# Altium integrated library SignalCommunications.IntLib: 804 symbols (part 6 of 10)
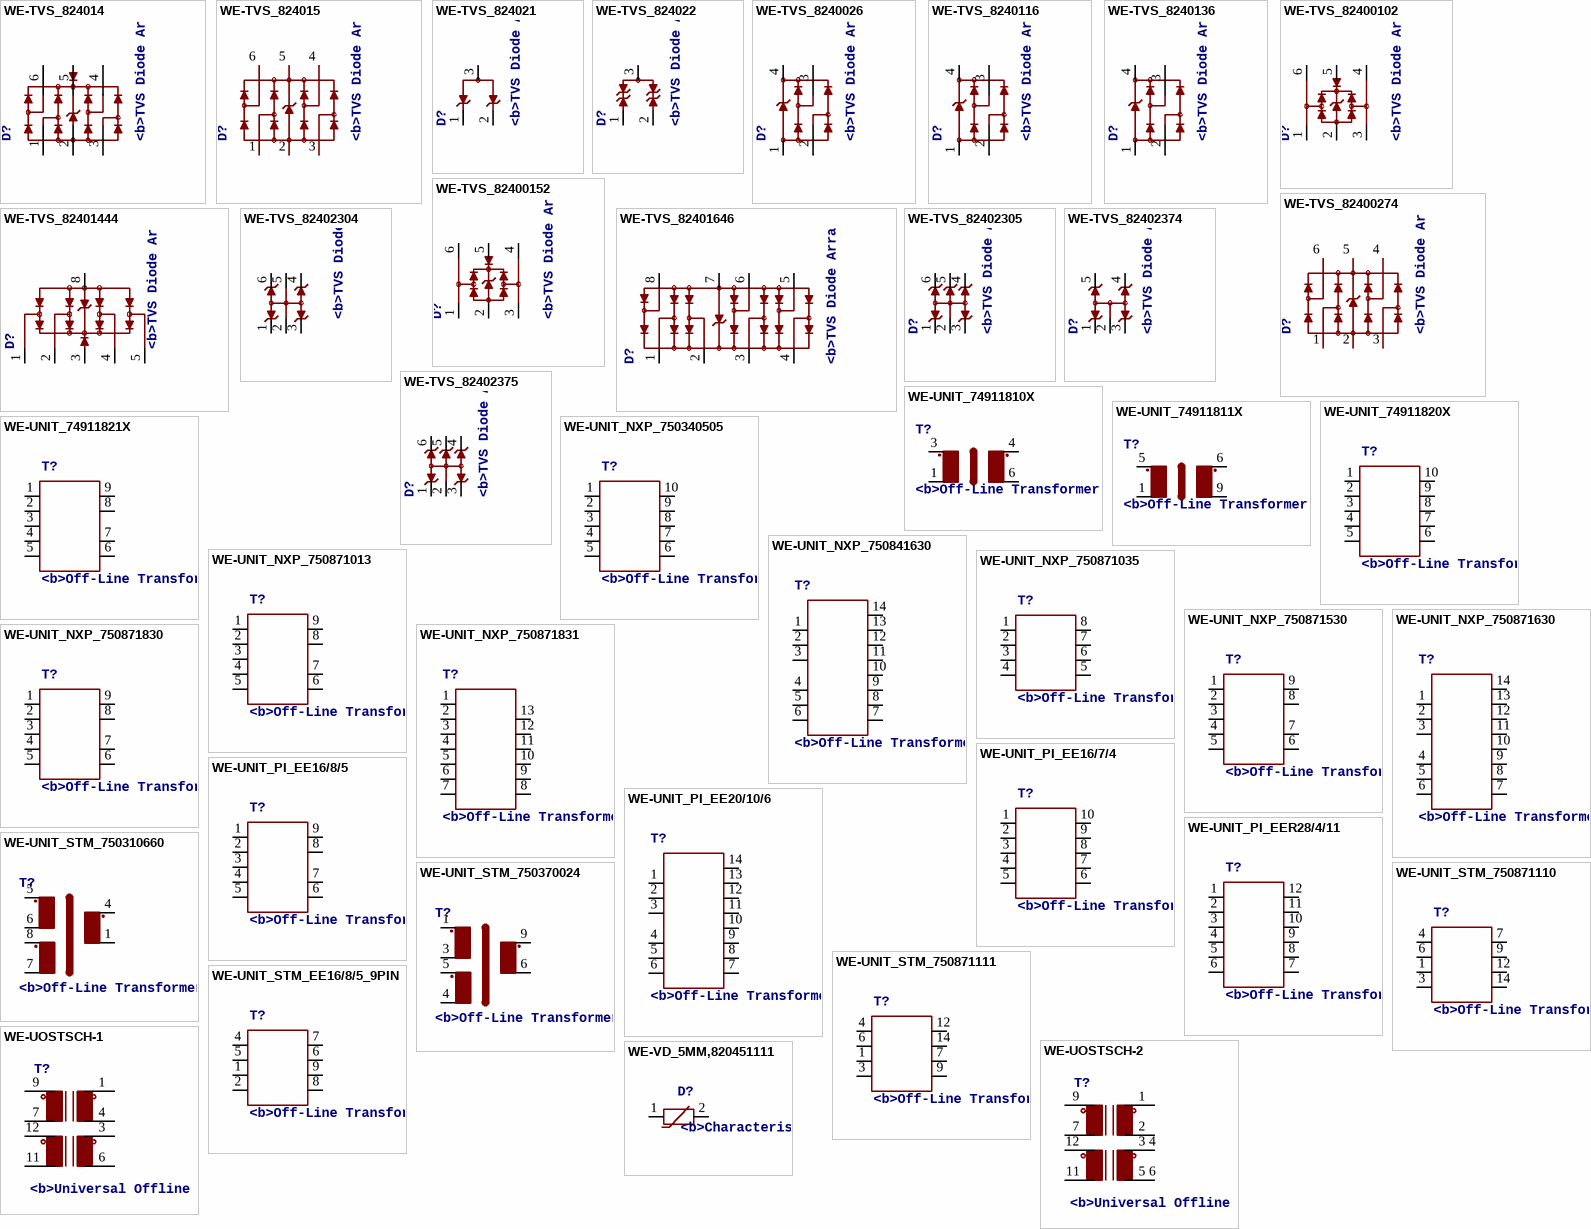
[diagram p47: symbols WE-TVS_824014 to WE-VD_5MM,820451111]

## WE-UOSTSCH-2
designator T?, comment <b>Universal Offline Standard Transformers WE-UOST</b><p> / - Approximate 1% stray inductance for symmetrical interference suppression<br> / <br> / -- Input voltage range 85-265VAC (125-375VDC)<br> / -- Output power 12-16W <br> / -- designed to comply with EN61558-2-16: reinforced insulation<br> / -- creepage and clearance distance > 6.5 mm <br> / --Insulation test voltage 4kV(AC)<br> / -- For SMD assembly <br>
MANUFACTURER: Würth Elektronik eiSos GmbH; CREATED-BY: Christin Zierenner; COMPANY-URL: http://www.we-online.de; CREATED-DATE: JAN 2013; DATASHEET-URL: http://katalog.we-online.de/en/pbs/WE-UOST?m=t&sq=uost&sp=&sp=http%3A%2F%2Fwww.we-online.de%2Fweb%2Fen%2Felectronic_components%2Fsearchpage_PBS.php%3Fsearch%3DUOST
footprint WE-UOST
pins: 1, 2 4, 3 4 3, 5 6 6, 7, 9, 11, 12

## WE-VD_5MM,820451111
designator D?, comment <b>Characteristics:</b> / <pre>•Low clamping voltage / •After a surge impulse the varistor works immediately / in normal mode so there is no slip current / •Excellent absorption at surge impulses</pre><br> / <b>Applications:</b> / <pre> / •12–48 VDC distribution / •110–400 V power supply / •Leakage of voltage peaks / •Surge protection in accordance with EN 61000-4-5 / </pre>
MANUFACTURER: Würth Elektronik eiSos GmbH; CREATED-BY: Christin Zierenner; COMPANY-URL: http://www.we-online.de; CREATED-DATE: May 2012; DATASHEET-URL: http://katalog.we-online.de/kataloge/eisos/index.php?language=en&pf=WE-VD
footprint WE-VD_5MM-DIA
pins: 1, 2

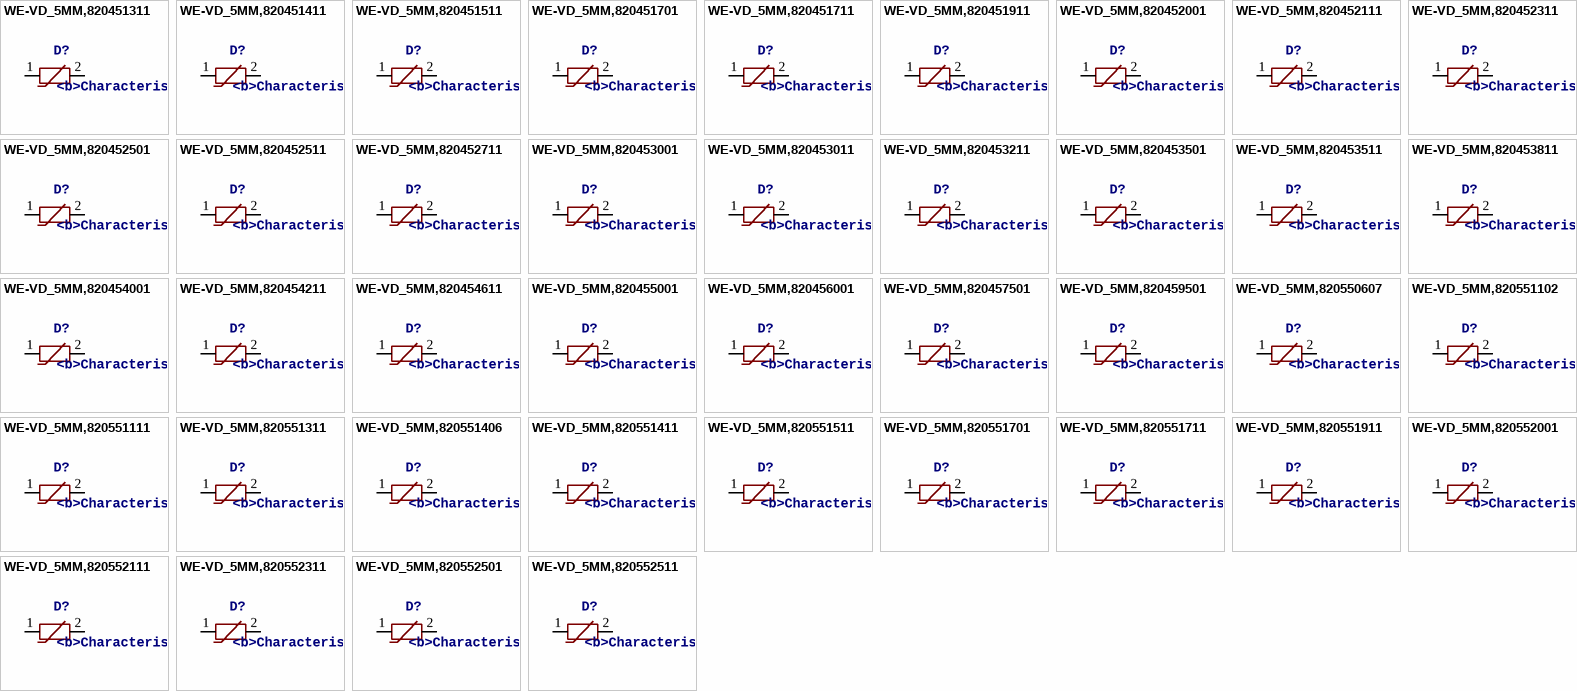
[diagram p34: symbols WE-VD_5MM,820451311 to WE-VD_5MM,820552511]

## WE-VD_5MM,820451311
designator D?, comment <b>Characteristics:</b> / <pre>•Low clamping voltage / •After a surge impulse the varistor works immediately / in normal mode so there is no slip current / •Excellent absorption at surge impulses</pre><br> / <b>Applications:</b> / <pre> / •12–48 VDC distribution / •110–400 V power supply / •Leakage of voltage peaks / •Surge protection in accordance with EN 61000-4-5 / </pre>
MANUFACTURER: Würth Elektronik eiSos GmbH; CREATED-BY: Christin Zierenner; COMPANY-URL: http://www.we-online.de; CREATED-DATE: May 2012; DATASHEET-URL: http://katalog.we-online.de/kataloge/eisos/index.php?language=en&pf=WE-VD
footprint WE-VD_5MM-DIA
pins: 1, 2

## WE-VD_5MM,820451411
designator D?, comment <b>Characteristics:</b> / <pre>•Low clamping voltage / •After a surge impulse the varistor works immediately / in normal mode so there is no slip current / •Excellent absorption at surge impulses</pre><br> / <b>Applications:</b> / <pre> / •12–48 VDC distribution / •110–400 V power supply / •Leakage of voltage peaks / •Surge protection in accordance with EN 61000-4-5 / </pre>
MANUFACTURER: Würth Elektronik eiSos GmbH; CREATED-BY: Christin Zierenner; COMPANY-URL: http://www.we-online.de; CREATED-DATE: May 2012; DATASHEET-URL: http://katalog.we-online.de/kataloge/eisos/index.php?language=en&pf=WE-VD
footprint WE-VD_5MM-DIA
pins: 1, 2

## WE-VD_5MM,820451511
designator D?, comment <b>Characteristics:</b> / <pre>•Low clamping voltage / •After a surge impulse the varistor works immediately / in normal mode so there is no slip current / •Excellent absorption at surge impulses</pre><br> / <b>Applications:</b> / <pre> / •12–48 VDC distribution / •110–400 V power supply / •Leakage of voltage peaks / •Surge protection in accordance with EN 61000-4-5 / </pre>
MANUFACTURER: Würth Elektronik eiSos GmbH; CREATED-BY: Christin Zierenner; COMPANY-URL: http://www.we-online.de; CREATED-DATE: May 2012; DATASHEET-URL: http://katalog.we-online.de/kataloge/eisos/index.php?language=en&pf=WE-VD
footprint WE-VD_5MM-DIA
pins: 1, 2

## WE-VD_5MM,820451701
designator D?, comment <b>Characteristics:</b> / <pre>•Low clamping voltage / •After a surge impulse the varistor works immediately / in normal mode so there is no slip current / •Excellent absorption at surge impulses</pre><br> / <b>Applications:</b> / <pre> / •12–48 VDC distribution / •110–400 V power supply / •Leakage of voltage peaks / •Surge protection in accordance with EN 61000-4-5 / </pre>
MANUFACTURER: Würth Elektronik eiSos GmbH; CREATED-BY: Christin Zierenner; COMPANY-URL: http://www.we-online.de; CREATED-DATE: May 2012; DATASHEET-URL: http://katalog.we-online.de/kataloge/eisos/index.php?language=en&pf=WE-VD
footprint WE-VD_5MM-DIA
pins: 1, 2

## WE-VD_5MM,820451711
designator D?, comment <b>Characteristics:</b> / <pre>•Low clamping voltage / •After a surge impulse the varistor works immediately / in normal mode so there is no slip current / •Excellent absorption at surge impulses</pre><br> / <b>Applications:</b> / <pre> / •12–48 VDC distribution / •110–400 V power supply / •Leakage of voltage peaks / •Surge protection in accordance with EN 61000-4-5 / </pre>
MANUFACTURER: Würth Elektronik eiSos GmbH; CREATED-BY: Christin Zierenner; COMPANY-URL: http://www.we-online.de; CREATED-DATE: May 2012; DATASHEET-URL: http://katalog.we-online.de/kataloge/eisos/index.php?language=en&pf=WE-VD
footprint WE-VD_5MM-DIA
pins: 1, 2

## WE-VD_5MM,820451911
designator D?, comment <b>Characteristics:</b> / <pre>•Low clamping voltage / •After a surge impulse the varistor works immediately / in normal mode so there is no slip current / •Excellent absorption at surge impulses</pre><br> / <b>Applications:</b> / <pre> / •12–48 VDC distribution / •110–400 V power supply / •Leakage of voltage peaks / •Surge protection in accordance with EN 61000-4-5 / </pre>
MANUFACTURER: Würth Elektronik eiSos GmbH; CREATED-BY: Christin Zierenner; COMPANY-URL: http://www.we-online.de; CREATED-DATE: May 2012; DATASHEET-URL: http://katalog.we-online.de/kataloge/eisos/index.php?language=en&pf=WE-VD
footprint WE-VD_5MM-DIA
pins: 1, 2

## WE-VD_5MM,820452001
designator D?, comment <b>Characteristics:</b> / <pre>•Low clamping voltage / •After a surge impulse the varistor works immediately / in normal mode so there is no slip current / •Excellent absorption at surge impulses</pre><br> / <b>Applications:</b> / <pre> / •12–48 VDC distribution / •110–400 V power supply / •Leakage of voltage peaks / •Surge protection in accordance with EN 61000-4-5 / </pre>
MANUFACTURER: Würth Elektronik eiSos GmbH; CREATED-BY: Christin Zierenner; COMPANY-URL: http://www.we-online.de; CREATED-DATE: May 2012; DATASHEET-URL: http://katalog.we-online.de/kataloge/eisos/media/pdf/820452001.pdf
footprint WE-VD_5MM-DIA
pins: 1, 2

## WE-VD_5MM,820452111
designator D?, comment <b>Characteristics:</b> / <pre>•Low clamping voltage / •After a surge impulse the varistor works immediately / in normal mode so there is no slip current / •Excellent absorption at surge impulses</pre><br> / <b>Applications:</b> / <pre> / •12–48 VDC distribution / •110–400 V power supply / •Leakage of voltage peaks / •Surge protection in accordance with EN 61000-4-5 / </pre>
MANUFACTURER: Würth Elektronik eiSos GmbH; CREATED-BY: Christin Zierenner; COMPANY-URL: http://www.we-online.de; CREATED-DATE: May 2012; DATASHEET-URL: http://katalog.we-online.de/kataloge/eisos/index.php?language=en&pf=WE-VD
footprint WE-VD_5MM-1.0
pins: 1, 2

## WE-VD_5MM,820452311
designator D?, comment <b>Characteristics:</b> / <pre>•Low clamping voltage / •After a surge impulse the varistor works immediately / in normal mode so there is no slip current / •Excellent absorption at surge impulses</pre><br> / <b>Applications:</b> / <pre> / •12–48 VDC distribution / •110–400 V power supply / •Leakage of voltage peaks / •Surge protection in accordance with EN 61000-4-5 / </pre>
MANUFACTURER: Würth Elektronik eiSos GmbH; CREATED-BY: Christin Zierenner; COMPANY-URL: http://www.we-online.de; CREATED-DATE: May 2012; DATASHEET-URL: http://katalog.we-online.de/kataloge/eisos/index.php?language=en&pf=WE-VD
footprint WE-VD_5MM-1.1
pins: 1, 2

## WE-VD_5MM,820452501
designator D?, comment <b>Characteristics:</b> / <pre>•Low clamping voltage / •After a surge impulse the varistor works immediately / in normal mode so there is no slip current / •Excellent absorption at surge impulses</pre><br> / <b>Applications:</b> / <pre> / •12–48 VDC distribution / •110–400 V power supply / •Leakage of voltage peaks / •Surge protection in accordance with EN 61000-4-5 / </pre>
MANUFACTURER: Würth Elektronik eiSos GmbH; CREATED-BY: Christin Zierenner; COMPANY-URL: http://www.we-online.de; CREATED-DATE: May 2012; DATASHEET-URL: http://katalog.we-online.de/kataloge/eisos/index.php?language=en&pf=WE-VD
footprint WE-VD_5MM-DIA
pins: 1, 2

## WE-VD_5MM,820452511
designator D?, comment <b>Characteristics:</b> / <pre>•Low clamping voltage / •After a surge impulse the varistor works immediately / in normal mode so there is no slip current / •Excellent absorption at surge impulses</pre><br> / <b>Applications:</b> / <pre> / •12–48 VDC distribution / •110–400 V power supply / •Leakage of voltage peaks / •Surge protection in accordance with EN 61000-4-5 / </pre>
MANUFACTURER: Würth Elektronik eiSos GmbH; CREATED-BY: Christin Zierenner; COMPANY-URL: http://www.we-online.de; CREATED-DATE: May 2012; DATASHEET-URL: http://katalog.we-online.de/kataloge/eisos/index.php?language=en&pf=WE-VD
footprint WE-VD_5MM-1.3
pins: 1, 2

## WE-VD_5MM,820452711
designator D?, comment <b>Characteristics:</b> / <pre>•Low clamping voltage / •After a surge impulse the varistor works immediately / in normal mode so there is no slip current / •Excellent absorption at surge impulses</pre><br> / <b>Applications:</b> / <pre> / •12–48 VDC distribution / •110–400 V power supply / •Leakage of voltage peaks / •Surge protection in accordance with EN 61000-4-5 / </pre>
MANUFACTURER: Würth Elektronik eiSos GmbH; CREATED-BY: Christin Zierenner; COMPANY-URL: http://www.we-online.de; CREATED-DATE: May 2012; DATASHEET-URL: http://katalog.we-online.de/kataloge/eisos/index.php?language=en&pf=WE-VD
footprint WE-VD_5MM-1.5
pins: 1, 2

## WE-VD_5MM,820453001
designator D?, comment <b>Characteristics:</b> / <pre>•Low clamping voltage / •After a surge impulse the varistor works immediately / in normal mode so there is no slip current / •Excellent absorption at surge impulses</pre><br> / <b>Applications:</b> / <pre> / •12–48 VDC distribution / •110–400 V power supply / •Leakage of voltage peaks / •Surge protection in accordance with EN 61000-4-5 / </pre>
MANUFACTURER: Würth Elektronik eiSos GmbH; CREATED-BY: Christin Zierenner; COMPANY-URL: http://www.we-online.de; CREATED-DATE: May 2012; DATASHEET-URL: http://katalog.we-online.de/kataloge/eisos/media/pdf/820453001.pdf
footprint WE-VD_5MM-DIA
pins: 1, 2

## WE-VD_5MM,820453011
designator D?, comment <b>Characteristics:</b> / <pre>•Low clamping voltage / •After a surge impulse the varistor works immediately / in normal mode so there is no slip current / •Excellent absorption at surge impulses</pre><br> / <b>Applications:</b> / <pre> / •12–48 VDC distribution / •110–400 V power supply / •Leakage of voltage peaks / •Surge protection in accordance with EN 61000-4-5 / </pre>
MANUFACTURER: Würth Elektronik eiSos GmbH; CREATED-BY: Christin Zierenner; COMPANY-URL: http://www.we-online.de; CREATED-DATE: May 2012; DATASHEET-URL: http://katalog.we-online.de/kataloge/eisos/index.php?language=en&pf=WE-VD
footprint WE-VD_5MM-1.7
pins: 1, 2

## WE-VD_5MM,820453211
designator D?, comment <b>Characteristics:</b> / <pre>•Low clamping voltage / •After a surge impulse the varistor works immediately / in normal mode so there is no slip current / •Excellent absorption at surge impulses</pre><br> / <b>Applications:</b> / <pre> / •12–48 VDC distribution / •110–400 V power supply / •Leakage of voltage peaks / •Surge protection in accordance with EN 61000-4-5 / </pre>
MANUFACTURER: Würth Elektronik eiSos GmbH; CREATED-BY: Christin Zierenner; COMPANY-URL: http://www.we-online.de; CREATED-DATE: May 2012; DATASHEET-URL: http://katalog.we-online.de/kataloge/eisos/index.php?language=en&pf=WE-VD
footprint WE-VD_5MM-1.8
pins: 1, 2

## WE-VD_5MM,820453501
designator D?, comment <b>Characteristics:</b> / <pre>•Low clamping voltage / •After a surge impulse the varistor works immediately / in normal mode so there is no slip current / •Excellent absorption at surge impulses</pre><br> / <b>Applications:</b> / <pre> / •12–48 VDC distribution / •110–400 V power supply / •Leakage of voltage peaks / •Surge protection in accordance with EN 61000-4-5 / </pre>
MANUFACTURER: Würth Elektronik eiSos GmbH; CREATED-BY: Christin Zierenner; COMPANY-URL: http://www.we-online.de; CREATED-DATE: May 2012; DATASHEET-URL: http://katalog.we-online.de/kataloge/eisos/index.php?language=en&pf=WE-VD
footprint WE-VD_5MM-1.1
pins: 1, 2

## WE-VD_5MM,820453511
designator D?, comment <b>Characteristics:</b> / <pre>•Low clamping voltage / •After a surge impulse the varistor works immediately / in normal mode so there is no slip current / •Excellent absorption at surge impulses</pre><br> / <b>Applications:</b> / <pre> / •12–48 VDC distribution / •110–400 V power supply / •Leakage of voltage peaks / •Surge protection in accordance with EN 61000-4-5 / </pre>
MANUFACTURER: Würth Elektronik eiSos GmbH; CREATED-BY: Christin Zierenner; COMPANY-URL: http://www.we-online.de; CREATED-DATE: May 2012; DATASHEET-URL: http://katalog.we-online.de/kataloge/eisos/index.php?language=en&pf=WE-VD
footprint WE-VD_5MM-2.1
pins: 1, 2

## WE-VD_5MM,820453811
designator D?, comment <b>Characteristics:</b> / <pre>•Low clamping voltage / •After a surge impulse the varistor works immediately / in normal mode so there is no slip current / •Excellent absorption at surge impulses</pre><br> / <b>Applications:</b> / <pre> / •12–48 VDC distribution / •110–400 V power supply / •Leakage of voltage peaks / •Surge protection in accordance with EN 61000-4-5 / </pre>
MANUFACTURER: Würth Elektronik eiSos GmbH; CREATED-BY: Christin Zierenner; COMPANY-URL: http://www.we-online.de; CREATED-DATE: May 2012; DATASHEET-URL: http://katalog.we-online.de/kataloge/eisos/media/pdf/820453811.pdf
footprint WE-VD_5MM-2.4
pins: 1, 2

## WE-VD_5MM,820454001
designator D?, comment <b>Characteristics:</b> / <pre>•Low clamping voltage / •After a surge impulse the varistor works immediately / in normal mode so there is no slip current / •Excellent absorption at surge impulses</pre><br> / <b>Applications:</b> / <pre> / •12–48 VDC distribution / •110–400 V power supply / •Leakage of voltage peaks / •Surge protection in accordance with EN 61000-4-5 / </pre>
MANUFACTURER: Würth Elektronik eiSos GmbH; CREATED-BY: Christin Zierenner; COMPANY-URL: http://www.we-online.de; CREATED-DATE: May 2012; DATASHEET-URL: http://katalog.we-online.de/kataloge/eisos/index.php?language=en&pf=WE-VD
footprint WE-VD_5MM-1.5
pins: 1, 2

## WE-VD_5MM,820454211
designator D?, comment <b>Characteristics:</b> / <pre>•Low clamping voltage / •After a surge impulse the varistor works immediately / in normal mode so there is no slip current / •Excellent absorption at surge impulses</pre><br> / <b>Applications:</b> / <pre> / •12–48 VDC distribution / •110–400 V power supply / •Leakage of voltage peaks / •Surge protection in accordance with EN 61000-4-5 / </pre>
MANUFACTURER: Würth Elektronik eiSos GmbH; CREATED-BY: Christin Zierenner; COMPANY-URL: http://www.we-online.de; CREATED-DATE: May 2012; DATASHEET-URL: http://katalog.we-online.de/kataloge/eisos/index.php?language=en&pf=WE-VD
footprint WE-VD_5MM-2.7
pins: 1, 2

## WE-VD_5MM,820454611
designator D?, comment <b>Characteristics:</b> / <pre>•Low clamping voltage / •After a surge impulse the varistor works immediately / in normal mode so there is no slip current / •Excellent absorption at surge impulses</pre><br> / <b>Applications:</b> / <pre> / •12–48 VDC distribution / •110–400 V power supply / •Leakage of voltage peaks / •Surge protection in accordance with EN 61000-4-5 / </pre>
MANUFACTURER: Würth Elektronik eiSos GmbH; CREATED-BY: Christin Zierenner; COMPANY-URL: http://www.we-online.de; CREATED-DATE: May 2012; DATASHEET-URL: http://katalog.we-online.de/kataloge/eisos/index.php?language=en&pf=WE-VD
footprint WE-VD_5MM-3.0
pins: 1, 2

## WE-VD_5MM,820455001
designator D?, comment <b>Characteristics:</b> / <pre>•Low clamping voltage / •After a surge impulse the varistor works immediately / in normal mode so there is no slip current / •Excellent absorption at surge impulses</pre><br> / <b>Applications:</b> / <pre> / •12–48 VDC distribution / •110–400 V power supply / •Leakage of voltage peaks / •Surge protection in accordance with EN 61000-4-5 / </pre>
MANUFACTURER: Würth Elektronik eiSos GmbH; CREATED-BY: Christin Zierenner; COMPANY-URL: http://www.we-online.de; CREATED-DATE: May 2012; DATASHEET-URL: http://katalog.we-online.de/kataloge/eisos/index.php?language=en&pf=WE-VD
footprint WE-VD_5MM-DIA
pins: 1, 2

## WE-VD_5MM,820456001
designator D?, comment <b>Characteristics:</b> / <pre>•Low clamping voltage / •After a surge impulse the varistor works immediately / in normal mode so there is no slip current / •Excellent absorption at surge impulses</pre><br> / <b>Applications:</b> / <pre> / •12–48 VDC distribution / •110–400 V power supply / •Leakage of voltage peaks / •Surge protection in accordance with EN 61000-4-5 / </pre>
MANUFACTURER: Würth Elektronik eiSos GmbH; CREATED-BY: Christin Zierenner; COMPANY-URL: http://www.we-online.de; CREATED-DATE: May 2012; DATASHEET-URL: http://katalog.we-online.de/kataloge/eisos/index.php?language=en&pf=WE-VD
footprint WE-VD_5MM-DIA
pins: 1, 2

## WE-VD_5MM,820457501
designator D?, comment <b>Characteristics:</b> / <pre>•Low clamping voltage / •After a surge impulse the varistor works immediately / in normal mode so there is no slip current / •Excellent absorption at surge impulses</pre><br> / <b>Applications:</b> / <pre> / •12–48 VDC distribution / •110–400 V power supply / •Leakage of voltage peaks / •Surge protection in accordance with EN 61000-4-5 / </pre>
MANUFACTURER: Würth Elektronik eiSos GmbH; CREATED-BY: Christin Zierenner; COMPANY-URL: http://www.we-online.de; CREATED-DATE: May 2012; DATASHEET-URL: http://katalog.we-online.de/kataloge/eisos/index.php?language=en&pf=WE-VD
footprint WE-VD_5MM-DIA
pins: 1, 2

## WE-VD_5MM,820459501
designator D?, comment <b>Characteristics:</b> / <pre>•Low clamping voltage / •After a surge impulse the varistor works immediately / in normal mode so there is no slip current / •Excellent absorption at surge impulses</pre><br> / <b>Applications:</b> / <pre> / •12–48 VDC distribution / •110–400 V power supply / •Leakage of voltage peaks / •Surge protection in accordance with EN 61000-4-5 / </pre>
MANUFACTURER: Würth Elektronik eiSos GmbH; CREATED-BY: Christin Zierenner; COMPANY-URL: http://www.we-online.de; CREATED-DATE: May 2012; DATASHEET-URL: http://katalog.we-online.de/kataloge/eisos/index.php?language=en&pf=WE-VD
footprint WE-VD_5MM-DIA
pins: 1, 2

## WE-VD_5MM,820550607
designator D?, comment <b>Characteristics:</b> / <pre>•Low clamping voltage / •After a surge impulse the varistor works immediately / in normal mode so there is no slip current / •Excellent absorption at surge impulses</pre><br> / <b>Applications:</b> / <pre> / •12–48 VDC distribution / •110–400 V power supply / •Leakage of voltage peaks / •Surge protection in accordance with EN 61000-4-5 / </pre>
MANUFACTURER: Würth Elektronik eiSos GmbH; CREATED-BY: Christin Zierenner; COMPANY-URL: http://www.we-online.de; CREATED-DATE: May 2012; DATASHEET-URL: http://katalog.we-online.de/kataloge/eisos/index.php?language=en&pf=WE-VD
footprint WE-VD_5MM-DIA
pins: 1, 2

## WE-VD_5MM,820551102
designator D?, comment <b>Characteristics:</b> / <pre>•Low clamping voltage / •After a surge impulse the varistor works immediately / in normal mode so there is no slip current / •Excellent absorption at surge impulses</pre><br> / <b>Applications:</b> / <pre> / •12–48 VDC distribution / •110–400 V power supply / •Leakage of voltage peaks / •Surge protection in accordance with EN 61000-4-5 / </pre>
MANUFACTURER: Würth Elektronik eiSos GmbH; CREATED-BY: Christin Zierenner; COMPANY-URL: http://www.we-online.de; CREATED-DATE: May 2012; DATASHEET-URL: http://katalog.we-online.de/kataloge/eisos/index.php?language=en&pf=WE-VD
footprint WE-VD_5MM-DIA
pins: 1, 2

## WE-VD_5MM,820551111
designator D?, comment <b>Characteristics:</b> / <pre>•Low clamping voltage / •After a surge impulse the varistor works immediately / in normal mode so there is no slip current / •Excellent absorption at surge impulses</pre><br> / <b>Applications:</b> / <pre> / •12–48 VDC distribution / •110–400 V power supply / •Leakage of voltage peaks / •Surge protection in accordance with EN 61000-4-5 / </pre>
MANUFACTURER: Würth Elektronik eiSos GmbH; CREATED-BY: Christin Zierenner; COMPANY-URL: http://www.we-online.de; CREATED-DATE: May 2012; DATASHEET-URL: http://katalog.we-online.de/kataloge/eisos/index.php?language=en&pf=WE-VD
footprint WE-VD_5MM-DIA
pins: 1, 2

## WE-VD_5MM,820551311
designator D?, comment <b>Characteristics:</b> / <pre>•Low clamping voltage / •After a surge impulse the varistor works immediately / in normal mode so there is no slip current / •Excellent absorption at surge impulses</pre><br> / <b>Applications:</b> / <pre> / •12–48 VDC distribution / •110–400 V power supply / •Leakage of voltage peaks / •Surge protection in accordance with EN 61000-4-5 / </pre>
MANUFACTURER: Würth Elektronik eiSos GmbH; CREATED-BY: Christin Zierenner; COMPANY-URL: http://www.we-online.de; CREATED-DATE: May 2012; DATASHEET-URL: http://katalog.we-online.de/kataloge/eisos/media/pdf/820551311.pdf
footprint WE-VD_5MM-DIA
pins: 1, 2

## WE-VD_5MM,820551406
designator D?, comment <b>Characteristics:</b> / <pre>•Low clamping voltage / •After a surge impulse the varistor works immediately / in normal mode so there is no slip current / •Excellent absorption at surge impulses</pre><br> / <b>Applications:</b> / <pre> / •12–48 VDC distribution / •110–400 V power supply / •Leakage of voltage peaks / •Surge protection in accordance with EN 61000-4-5 / </pre>
MANUFACTURER: Würth Elektronik eiSos GmbH; CREATED-BY: Christin Zierenner; COMPANY-URL: http://www.we-online.de; CREATED-DATE: May 2012; DATASHEET-URL: http://katalog.we-online.de/kataloge/eisos/media/pdf/820551406.pdf
footprint WE-VD_5MM-DIA
pins: 1, 2

## WE-VD_5MM,820551411
designator D?, comment <b>Characteristics:</b> / <pre>•Low clamping voltage / •After a surge impulse the varistor works immediately / in normal mode so there is no slip current / •Excellent absorption at surge impulses</pre><br> / <b>Applications:</b> / <pre> / •12–48 VDC distribution / •110–400 V power supply / •Leakage of voltage peaks / •Surge protection in accordance with EN 61000-4-5 / </pre>
MANUFACTURER: Würth Elektronik eiSos GmbH; CREATED-BY: Christin Zierenner; COMPANY-URL: http://www.we-online.de; CREATED-DATE: May 2012; DATASHEET-URL: http://katalog.we-online.de/kataloge/eisos/index.php?language=en&pf=WE-VD
footprint WE-VD_5MM-DIA
pins: 1, 2

## WE-VD_5MM,820551511
designator D?, comment <b>Characteristics:</b> / <pre>•Low clamping voltage / •After a surge impulse the varistor works immediately / in normal mode so there is no slip current / •Excellent absorption at surge impulses</pre><br> / <b>Applications:</b> / <pre> / •12–48 VDC distribution / •110–400 V power supply / •Leakage of voltage peaks / •Surge protection in accordance with EN 61000-4-5 / </pre>
MANUFACTURER: Würth Elektronik eiSos GmbH; CREATED-BY: Christin Zierenner; COMPANY-URL: http://www.we-online.de; CREATED-DATE: May 2012; DATASHEET-URL: http://katalog.we-online.de/kataloge/eisos/index.php?language=en&pf=WE-VD
footprint WE-VD_5MM-DIA
pins: 1, 2

## WE-VD_5MM,820551701
designator D?, comment <b>Characteristics:</b> / <pre>•Low clamping voltage / •After a surge impulse the varistor works immediately / in normal mode so there is no slip current / •Excellent absorption at surge impulses</pre><br> / <b>Applications:</b> / <pre> / •12–48 VDC distribution / •110–400 V power supply / •Leakage of voltage peaks / •Surge protection in accordance with EN 61000-4-5 / </pre>
MANUFACTURER: Würth Elektronik eiSos GmbH; CREATED-BY: Christin Zierenner; COMPANY-URL: http://www.we-online.de; CREATED-DATE: May 2012; DATASHEET-URL: http://katalog.we-online.de/kataloge/eisos/index.php?language=en&pf=WE-VD
footprint WE-VD_5MM-DIA
pins: 1, 2

## WE-VD_5MM,820551711
designator D?, comment <b>Characteristics:</b> / <pre>•Low clamping voltage / •After a surge impulse the varistor works immediately / in normal mode so there is no slip current / •Excellent absorption at surge impulses</pre><br> / <b>Applications:</b> / <pre> / •12–48 VDC distribution / •110–400 V power supply / •Leakage of voltage peaks / •Surge protection in accordance with EN 61000-4-5 / </pre>
MANUFACTURER: Würth Elektronik eiSos GmbH; CREATED-BY: Christin Zierenner; COMPANY-URL: http://www.we-online.de; CREATED-DATE: May 2012; DATASHEET-URL: http://katalog.we-online.de/kataloge/eisos/index.php?language=en&pf=WE-VD
footprint WE-VD_5MM-DIA
pins: 1, 2

## WE-VD_5MM,820551911
designator D?, comment <b>Characteristics:</b> / <pre>•Low clamping voltage / •After a surge impulse the varistor works immediately / in normal mode so there is no slip current / •Excellent absorption at surge impulses</pre><br> / <b>Applications:</b> / <pre> / •12–48 VDC distribution / •110–400 V power supply / •Leakage of voltage peaks / •Surge protection in accordance with EN 61000-4-5 / </pre>
MANUFACTURER: Würth Elektronik eiSos GmbH; CREATED-BY: Christin Zierenner; COMPANY-URL: http://www.we-online.de; CREATED-DATE: May 2012; DATASHEET-URL: http://katalog.we-online.de/kataloge/eisos/index.php?language=en&pf=WE-VD
footprint WE-VD_5MM-DIA
pins: 1, 2

## WE-VD_5MM,820552001
designator D?, comment <b>Characteristics:</b> / <pre>•Low clamping voltage / •After a surge impulse the varistor works immediately / in normal mode so there is no slip current / •Excellent absorption at surge impulses</pre><br> / <b>Applications:</b> / <pre> / •12–48 VDC distribution / •110–400 V power supply / •Leakage of voltage peaks / •Surge protection in accordance with EN 61000-4-5 / </pre>
MANUFACTURER: Würth Elektronik eiSos GmbH; CREATED-BY: Christin Zierenner; COMPANY-URL: http://www.we-online.de; CREATED-DATE: May 2012; DATASHEET-URL: http://katalog.we-online.de/kataloge/eisos/index.php?language=en&pf=WE-VD
footprint WE-VD_5MM-DIA
pins: 1, 2

## WE-VD_5MM,820552111
designator D?, comment <b>Characteristics:</b> / <pre>•Low clamping voltage / •After a surge impulse the varistor works immediately / in normal mode so there is no slip current / •Excellent absorption at surge impulses</pre><br> / <b>Applications:</b> / <pre> / •12–48 VDC distribution / •110–400 V power supply / •Leakage of voltage peaks / •Surge protection in accordance with EN 61000-4-5 / </pre>
MANUFACTURER: Würth Elektronik eiSos GmbH; CREATED-BY: Christin Zierenner; COMPANY-URL: http://www.we-online.de; CREATED-DATE: May 2012; DATASHEET-URL: http://katalog.we-online.de/kataloge/eisos/index.php?language=en&pf=WE-VD
footprint WE-VD_5MM-1.0
pins: 1, 2

## WE-VD_5MM,820552311
designator D?, comment <b>Characteristics:</b> / <pre>•Low clamping voltage / •After a surge impulse the varistor works immediately / in normal mode so there is no slip current / •Excellent absorption at surge impulses</pre><br> / <b>Applications:</b> / <pre> / •12–48 VDC distribution / •110–400 V power supply / •Leakage of voltage peaks / •Surge protection in accordance with EN 61000-4-5 / </pre>
MANUFACTURER: Würth Elektronik eiSos GmbH; CREATED-BY: Christin Zierenner; COMPANY-URL: http://www.we-online.de; CREATED-DATE: May 2012; DATASHEET-URL: http://katalog.we-online.de/kataloge/eisos/index.php?language=en&pf=WE-VD
footprint WE-VD_5MM-1.1
pins: 1, 2

## WE-VD_5MM,820552501
designator D?, comment <b>Characteristics:</b> / <pre>•Low clamping voltage / •After a surge impulse the varistor works immediately / in normal mode so there is no slip current / •Excellent absorption at surge impulses</pre><br> / <b>Applications:</b> / <pre> / •12–48 VDC distribution / •110–400 V power supply / •Leakage of voltage peaks / •Surge protection in accordance with EN 61000-4-5 / </pre>
MANUFACTURER: Würth Elektronik eiSos GmbH; CREATED-BY: Christin Zierenner; COMPANY-URL: http://www.we-online.de; CREATED-DATE: May 2012; DATASHEET-URL: http://katalog.we-online.de/kataloge/eisos/media/pdf/820552501.pdf
footprint WE-VD_5MM-DIA
pins: 1, 2

## WE-VD_5MM,820552511
designator D?, comment <b>Characteristics:</b> / <pre>•Low clamping voltage / •After a surge impulse the varistor works immediately / in normal mode so there is no slip current / •Excellent absorption at surge impulses</pre><br> / <b>Applications:</b> / <pre> / •12–48 VDC distribution / •110–400 V power supply / •Leakage of voltage peaks / •Surge protection in accordance with EN 61000-4-5 / </pre>
MANUFACTURER: Würth Elektronik eiSos GmbH; CREATED-BY: Christin Zierenner; COMPANY-URL: http://www.we-online.de; CREATED-DATE: May 2012; DATASHEET-URL: http://katalog.we-online.de/kataloge/eisos/index.php?language=en&pf=WE-VD
footprint WE-VD_5MM-1.3
pins: 1, 2

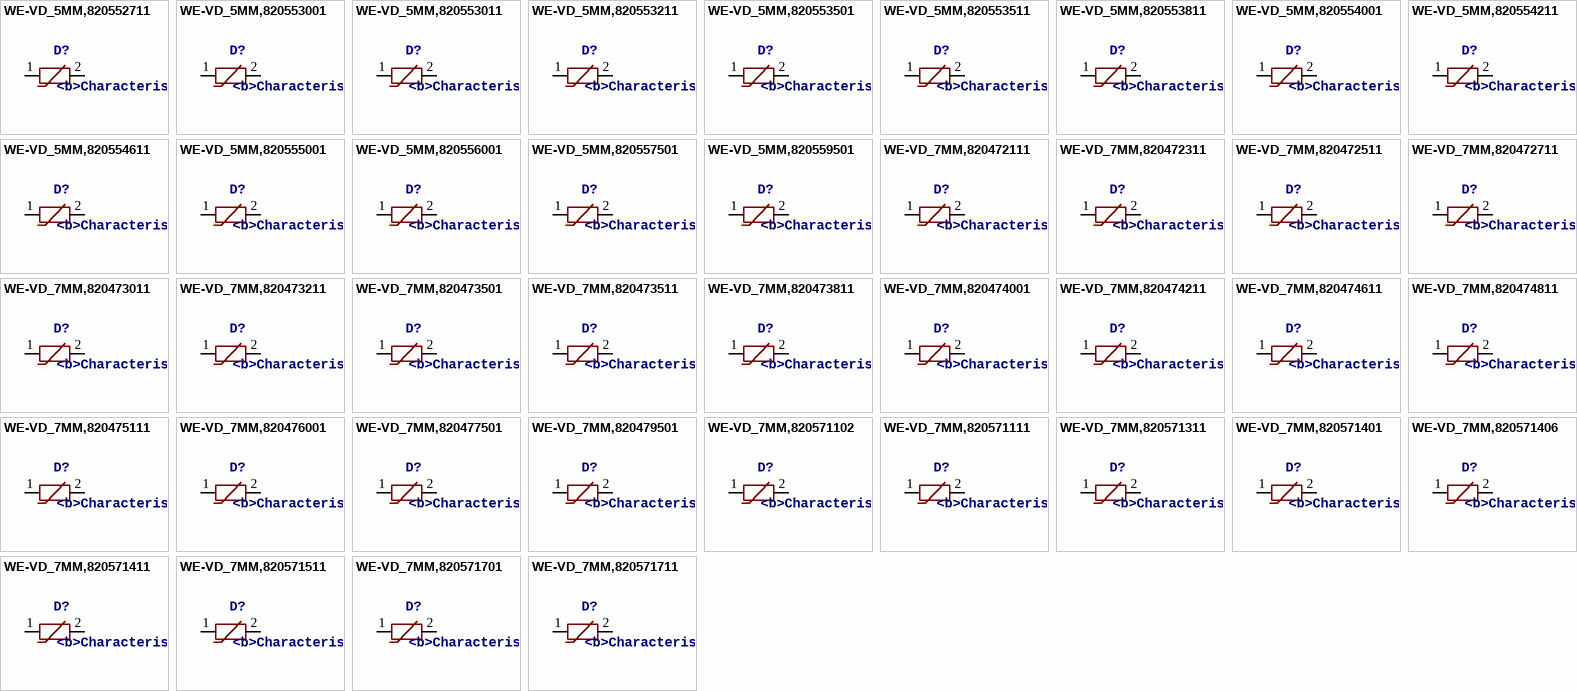
[diagram p35: symbols WE-VD_5MM,820552711 to WE-VD_7MM,820571711]

## WE-VD_5MM,820552711
designator D?, comment <b>Characteristics:</b> / <pre>•Low clamping voltage / •After a surge impulse the varistor works immediately / in normal mode so there is no slip current / •Excellent absorption at surge impulses</pre><br> / <b>Applications:</b> / <pre> / •12–48 VDC distribution / •110–400 V power supply / •Leakage of voltage peaks / •Surge protection in accordance with EN 61000-4-5 / </pre>
MANUFACTURER: Würth Elektronik eiSos GmbH; CREATED-BY: Christin Zierenner; COMPANY-URL: http://www.we-online.de; CREATED-DATE: May 2012; DATASHEET-URL: http://katalog.we-online.de/kataloge/eisos/media/pdf/820552711.pdf
footprint WE-VD_5MM-1.5
pins: 1, 2

## WE-VD_5MM,820553001
designator D?, comment <b>Characteristics:</b> / <pre>•Low clamping voltage / •After a surge impulse the varistor works immediately / in normal mode so there is no slip current / •Excellent absorption at surge impulses</pre><br> / <b>Applications:</b> / <pre> / •12–48 VDC distribution / •110–400 V power supply / •Leakage of voltage peaks / •Surge protection in accordance with EN 61000-4-5 / </pre>
MANUFACTURER: Würth Elektronik eiSos GmbH; CREATED-BY: Christin Zierenner; COMPANY-URL: http://www.we-online.de; CREATED-DATE: May 2012; DATASHEET-URL: http://katalog.we-online.de/kataloge/eisos/index.php?language=en&pf=WE-VD
footprint WE-VD_5MM-DIA
pins: 1, 2

## WE-VD_5MM,820553011
designator D?, comment <b>Characteristics:</b> / <pre>•Low clamping voltage / •After a surge impulse the varistor works immediately / in normal mode so there is no slip current / •Excellent absorption at surge impulses</pre><br> / <b>Applications:</b> / <pre> / •12–48 VDC distribution / •110–400 V power supply / •Leakage of voltage peaks / •Surge protection in accordance with EN 61000-4-5 / </pre>
MANUFACTURER: Würth Elektronik eiSos GmbH; CREATED-BY: Christin Zierenner; COMPANY-URL: http://www.we-online.de; CREATED-DATE: May 2012; DATASHEET-URL: http://katalog.we-online.de/kataloge/eisos/index.php?language=en&pf=WE-VD
footprint WE-VD_5MM-1.7
pins: 1, 2

## WE-VD_5MM,820553211
designator D?, comment <b>Characteristics:</b> / <pre>•Low clamping voltage / •After a surge impulse the varistor works immediately / in normal mode so there is no slip current / •Excellent absorption at surge impulses</pre><br> / <b>Applications:</b> / <pre> / •12–48 VDC distribution / •110–400 V power supply / •Leakage of voltage peaks / •Surge protection in accordance with EN 61000-4-5 / </pre>
MANUFACTURER: Würth Elektronik eiSos GmbH; CREATED-BY: Christin Zierenner; COMPANY-URL: http://www.we-online.de; CREATED-DATE: May 2012; DATASHEET-URL: http://katalog.we-online.de/kataloge/eisos/index.php?language=en&pf=WE-VD
footprint WE-VD_5MM-1.8
pins: 1, 2

## WE-VD_5MM,820553501
designator D?, comment <b>Characteristics:</b> / <pre>•Low clamping voltage / •After a surge impulse the varistor works immediately / in normal mode so there is no slip current / •Excellent absorption at surge impulses</pre><br> / <b>Applications:</b> / <pre> / •12–48 VDC distribution / •110–400 V power supply / •Leakage of voltage peaks / •Surge protection in accordance with EN 61000-4-5 / </pre>
MANUFACTURER: Würth Elektronik eiSos GmbH; CREATED-BY: Christin Zierenner; COMPANY-URL: http://www.we-online.de; CREATED-DATE: May 2012; DATASHEET-URL: http://katalog.we-online.de/kataloge/eisos/index.php?language=en&pf=WE-VD
footprint WE-VD_5MM-1.1
pins: 1, 2

## WE-VD_5MM,820553511
designator D?, comment <b>Characteristics:</b> / <pre>•Low clamping voltage / •After a surge impulse the varistor works immediately / in normal mode so there is no slip current / •Excellent absorption at surge impulses</pre><br> / <b>Applications:</b> / <pre> / •12–48 VDC distribution / •110–400 V power supply / •Leakage of voltage peaks / •Surge protection in accordance with EN 61000-4-5 / </pre>
MANUFACTURER: Würth Elektronik eiSos GmbH; CREATED-BY: Christin Zierenner; COMPANY-URL: http://www.we-online.de; CREATED-DATE: May 2012; DATASHEET-URL: http://katalog.we-online.de/kataloge/eisos/index.php?language=en&pf=WE-VD
footprint WE-VD_5MM-2.1
pins: 1, 2

## WE-VD_5MM,820553811
designator D?, comment <b>Characteristics:</b> / <pre>•Low clamping voltage / •After a surge impulse the varistor works immediately / in normal mode so there is no slip current / •Excellent absorption at surge impulses</pre><br> / <b>Applications:</b> / <pre> / •12–48 VDC distribution / •110–400 V power supply / •Leakage of voltage peaks / •Surge protection in accordance with EN 61000-4-5 / </pre>
MANUFACTURER: Würth Elektronik eiSos GmbH; CREATED-BY: Christin Zierenner; COMPANY-URL: http://www.we-online.de; CREATED-DATE: May 2012; DATASHEET-URL: http://katalog.we-online.de/kataloge/eisos/media/pdf/820553811.pdf
footprint WE-VD_5MM-2.4
pins: 1, 2

## WE-VD_5MM,820554001
designator D?, comment <b>Characteristics:</b> / <pre>•Low clamping voltage / •After a surge impulse the varistor works immediately / in normal mode so there is no slip current / •Excellent absorption at surge impulses</pre><br> / <b>Applications:</b> / <pre> / •12–48 VDC distribution / •110–400 V power supply / •Leakage of voltage peaks / •Surge protection in accordance with EN 61000-4-5 / </pre>
MANUFACTURER: Würth Elektronik eiSos GmbH; CREATED-BY: Christin Zierenner; COMPANY-URL: http://www.we-online.de; CREATED-DATE: May 2012; DATASHEET-URL: http://katalog.we-online.de/kataloge/eisos/media/pdf/820554001.pdf
footprint WE-VD_5MM-1.5
pins: 1, 2

## WE-VD_5MM,820554211
designator D?, comment <b>Characteristics:</b> / <pre>•Low clamping voltage / •After a surge impulse the varistor works immediately / in normal mode so there is no slip current / •Excellent absorption at surge impulses</pre><br> / <b>Applications:</b> / <pre> / •12–48 VDC distribution / •110–400 V power supply / •Leakage of voltage peaks / •Surge protection in accordance with EN 61000-4-5 / </pre>
MANUFACTURER: Würth Elektronik eiSos GmbH; CREATED-BY: Christin Zierenner; COMPANY-URL: http://www.we-online.de; CREATED-DATE: May 2012; DATASHEET-URL: http://katalog.we-online.de/kataloge/eisos/index.php?language=en&pf=WE-VD
footprint WE-VD_5MM-2.7
pins: 1, 2

## WE-VD_5MM,820554611
designator D?, comment <b>Characteristics:</b> / <pre>•Low clamping voltage / •After a surge impulse the varistor works immediately / in normal mode so there is no slip current / •Excellent absorption at surge impulses</pre><br> / <b>Applications:</b> / <pre> / •12–48 VDC distribution / •110–400 V power supply / •Leakage of voltage peaks / •Surge protection in accordance with EN 61000-4-5 / </pre>
MANUFACTURER: Würth Elektronik eiSos GmbH; CREATED-BY: Christin Zierenner; COMPANY-URL: http://www.we-online.de; CREATED-DATE: May 2012; DATASHEET-URL: http://katalog.we-online.de/kataloge/eisos/media/pdf/820554611.pdf
footprint WE-VD_5MM-3.0
pins: 1, 2

## WE-VD_5MM,820555001
designator D?, comment <b>Characteristics:</b> / <pre>•Low clamping voltage / •After a surge impulse the varistor works immediately / in normal mode so there is no slip current / •Excellent absorption at surge impulses</pre><br> / <b>Applications:</b> / <pre> / •12–48 VDC distribution / •110–400 V power supply / •Leakage of voltage peaks / •Surge protection in accordance with EN 61000-4-5 / </pre>
MANUFACTURER: Würth Elektronik eiSos GmbH; CREATED-BY: Christin Zierenner; COMPANY-URL: http://www.we-online.de; CREATED-DATE: May 2012; DATASHEET-URL: http://katalog.we-online.de/kataloge/eisos/index.php?language=en&pf=WE-VD
footprint WE-VD_5MM-DIA
pins: 1, 2

## WE-VD_5MM,820556001
designator D?, comment <b>Characteristics:</b> / <pre>•Low clamping voltage / •After a surge impulse the varistor works immediately / in normal mode so there is no slip current / •Excellent absorption at surge impulses</pre><br> / <b>Applications:</b> / <pre> / •12–48 VDC distribution / •110–400 V power supply / •Leakage of voltage peaks / •Surge protection in accordance with EN 61000-4-5 / </pre>
MANUFACTURER: Würth Elektronik eiSos GmbH; CREATED-BY: Christin Zierenner; COMPANY-URL: http://www.we-online.de; CREATED-DATE: May 2012; DATASHEET-URL: http://katalog.we-online.de/kataloge/eisos/media/pdf/820556001.pdf
footprint WE-VD_5MM-DIA
pins: 1, 2

## WE-VD_5MM,820557501
designator D?, comment <b>Characteristics:</b> / <pre>•Low clamping voltage / •After a surge impulse the varistor works immediately / in normal mode so there is no slip current / •Excellent absorption at surge impulses</pre><br> / <b>Applications:</b> / <pre> / •12–48 VDC distribution / •110–400 V power supply / •Leakage of voltage peaks / •Surge protection in accordance with EN 61000-4-5 / </pre>
MANUFACTURER: Würth Elektronik eiSos GmbH; CREATED-BY: Christin Zierenner; COMPANY-URL: http://www.we-online.de; CREATED-DATE: May 2012; DATASHEET-URL: http://katalog.we-online.de/kataloge/eisos/index.php?language=en&pf=WE-VD
footprint WE-VD_5MM-DIA
pins: 1, 2

## WE-VD_5MM,820559501
designator D?, comment <b>Characteristics:</b> / <pre>•Low clamping voltage / •After a surge impulse the varistor works immediately / in normal mode so there is no slip current / •Excellent absorption at surge impulses</pre><br> / <b>Applications:</b> / <pre> / •12–48 VDC distribution / •110–400 V power supply / •Leakage of voltage peaks / •Surge protection in accordance with EN 61000-4-5 / </pre>
MANUFACTURER: Würth Elektronik eiSos GmbH; CREATED-BY: Christin Zierenner; COMPANY-URL: http://www.we-online.de; CREATED-DATE: May 2012; DATASHEET-URL: http://katalog.we-online.de/kataloge/eisos/index.php?language=en&pf=WE-VD
footprint WE-VD_5MM-DIA
pins: 1, 2

## WE-VD_7MM,820472111
designator D?, comment <b>Characteristics:</b> / <pre>•Low clamping voltage / •After a surge impulse the varistor works immediately / in normal mode so there is no slip current / •Excellent absorption at surge impulses</pre><br> / <b>Applications:</b> / <pre> / •12–48 VDC distribution / •110–400 V power supply / •Leakage of voltage peaks / •Surge protection in accordance with EN 61000-4-5 / </pre>
MANUFACTURER: Würth Elektronik eiSos GmbH; CREATED-BY: Christin Zierenner; COMPANY-URL: http://www.we-online.de; CREATED-DATE: May 2012; DATASHEET-URL: http://katalog.we-online.de/kataloge/eisos/index.php?language=en&pf=WE-VD
footprint WE-VD_7MM-1.0
pins: 1, 2

## WE-VD_7MM,820472311
designator D?, comment <b>Characteristics:</b> / <pre>•Low clamping voltage / •After a surge impulse the varistor works immediately / in normal mode so there is no slip current / •Excellent absorption at surge impulses</pre><br> / <b>Applications:</b> / <pre> / •12–48 VDC distribution / •110–400 V power supply / •Leakage of voltage peaks / •Surge protection in accordance with EN 61000-4-5 / </pre>
MANUFACTURER: Würth Elektronik eiSos GmbH; CREATED-BY: Christin Zierenner; COMPANY-URL: http://www.we-online.de; CREATED-DATE: May 2012; DATASHEET-URL: http://katalog.we-online.de/kataloge/eisos/index.php?language=en&pf=WE-VD
footprint WE-VD_7MM-1.1
pins: 1, 2

## WE-VD_7MM,820472511
designator D?, comment <b>Characteristics:</b> / <pre>•Low clamping voltage / •After a surge impulse the varistor works immediately / in normal mode so there is no slip current / •Excellent absorption at surge impulses</pre><br> / <b>Applications:</b> / <pre> / •12–48 VDC distribution / •110–400 V power supply / •Leakage of voltage peaks / •Surge protection in accordance with EN 61000-4-5 / </pre>
MANUFACTURER: Würth Elektronik eiSos GmbH; CREATED-BY: Christin Zierenner; COMPANY-URL: http://www.we-online.de; CREATED-DATE: May 2012; DATASHEET-URL: http://katalog.we-online.de/kataloge/eisos/index.php?language=en&pf=WE-VD
footprint WE-VD_7MM-1.3
pins: 1, 2

## WE-VD_7MM,820472711
designator D?, comment <b>Characteristics:</b> / <pre>•Low clamping voltage / •After a surge impulse the varistor works immediately / in normal mode so there is no slip current / •Excellent absorption at surge impulses</pre><br> / <b>Applications:</b> / <pre> / •12–48 VDC distribution / •110–400 V power supply / •Leakage of voltage peaks / •Surge protection in accordance with EN 61000-4-5 / </pre>
MANUFACTURER: Würth Elektronik eiSos GmbH; CREATED-BY: Christin Zierenner; COMPANY-URL: http://www.we-online.de; CREATED-DATE: May 2012; DATASHEET-URL: http://katalog.we-online.de/kataloge/eisos/index.php?language=en&pf=WE-VD
footprint WE-VD_7MM-1.5
pins: 1, 2

## WE-VD_7MM,820473011
designator D?, comment <b>Characteristics:</b> / <pre>•Low clamping voltage / •After a surge impulse the varistor works immediately / in normal mode so there is no slip current / •Excellent absorption at surge impulses</pre><br> / <b>Applications:</b> / <pre> / •12–48 VDC distribution / •110–400 V power supply / •Leakage of voltage peaks / •Surge protection in accordance with EN 61000-4-5 / </pre>
MANUFACTURER: Würth Elektronik eiSos GmbH; CREATED-BY: Christin Zierenner; COMPANY-URL: http://www.we-online.de; CREATED-DATE: May 2012; DATASHEET-URL: http://katalog.we-online.de/kataloge/eisos/index.php?language=en&pf=WE-VD
footprint WE-VD_7MM-1.7
pins: 1, 2

## WE-VD_7MM,820473211
designator D?, comment <b>Characteristics:</b> / <pre>•Low clamping voltage / •After a surge impulse the varistor works immediately / in normal mode so there is no slip current / •Excellent absorption at surge impulses</pre><br> / <b>Applications:</b> / <pre> / •12–48 VDC distribution / •110–400 V power supply / •Leakage of voltage peaks / •Surge protection in accordance with EN 61000-4-5 / </pre>
MANUFACTURER: Würth Elektronik eiSos GmbH; CREATED-BY: Christin Zierenner; COMPANY-URL: http://www.we-online.de; CREATED-DATE: May 2012; DATASHEET-URL: http://katalog.we-online.de/kataloge/eisos/index.php?language=en&pf=WE-VD
footprint WE-VD_7MM-1.8
pins: 1, 2

## WE-VD_7MM,820473501
designator D?, comment <b>Characteristics:</b> / <pre>•Low clamping voltage / •After a surge impulse the varistor works immediately / in normal mode so there is no slip current / •Excellent absorption at surge impulses</pre><br> / <b>Applications:</b> / <pre> / •12–48 VDC distribution / •110–400 V power supply / •Leakage of voltage peaks / •Surge protection in accordance with EN 61000-4-5 / </pre>
MANUFACTURER: Würth Elektronik eiSos GmbH; CREATED-BY: Christin Zierenner; COMPANY-URL: http://www.we-online.de; CREATED-DATE: May 2012; DATASHEET-URL: http://katalog.we-online.de/kataloge/eisos/index.php?language=en&pf=WE-VD
footprint WE-VD_7MM-1.1
pins: 1, 2

## WE-VD_7MM,820473511
designator D?, comment <b>Characteristics:</b> / <pre>•Low clamping voltage / •After a surge impulse the varistor works immediately / in normal mode so there is no slip current / •Excellent absorption at surge impulses</pre><br> / <b>Applications:</b> / <pre> / •12–48 VDC distribution / •110–400 V power supply / •Leakage of voltage peaks / •Surge protection in accordance with EN 61000-4-5 / </pre>
MANUFACTURER: Würth Elektronik eiSos GmbH; CREATED-BY: Christin Zierenner; COMPANY-URL: http://www.we-online.de; CREATED-DATE: May 2012; DATASHEET-URL: http://katalog.we-online.de/kataloge/eisos/index.php?language=en&pf=WE-VD
footprint WE-VD_7MM-2.1
pins: 1, 2

## WE-VD_7MM,820473811
designator D?, comment <b>Characteristics:</b> / <pre>•Low clamping voltage / •After a surge impulse the varistor works immediately / in normal mode so there is no slip current / •Excellent absorption at surge impulses</pre><br> / <b>Applications:</b> / <pre> / •12–48 VDC distribution / •110–400 V power supply / •Leakage of voltage peaks / •Surge protection in accordance with EN 61000-4-5 / </pre>
MANUFACTURER: Würth Elektronik eiSos GmbH; CREATED-BY: Christin Zierenner; COMPANY-URL: http://www.we-online.de; CREATED-DATE: May 2012; DATASHEET-URL: http://katalog.we-online.de/kataloge/eisos/index.php?language=en&pf=WE-VD
footprint WE-VD_7MM-2.4
pins: 1, 2

## WE-VD_7MM,820474001
designator D?, comment <b>Characteristics:</b> / <pre>•Low clamping voltage / •After a surge impulse the varistor works immediately / in normal mode so there is no slip current / •Excellent absorption at surge impulses</pre><br> / <b>Applications:</b> / <pre> / •12–48 VDC distribution / •110–400 V power supply / •Leakage of voltage peaks / •Surge protection in accordance with EN 61000-4-5 / </pre>
MANUFACTURER: Würth Elektronik eiSos GmbH; CREATED-BY: Christin Zierenner; COMPANY-URL: http://www.we-online.de; CREATED-DATE: May 2012; DATASHEET-URL: http://katalog.we-online.de/kataloge/eisos/index.php?language=en&pf=WE-VD
footprint WE-VD_7MM-1.5
pins: 1, 2

## WE-VD_7MM,820474211
designator D?, comment <b>Characteristics:</b> / <pre>•Low clamping voltage / •After a surge impulse the varistor works immediately / in normal mode so there is no slip current / •Excellent absorption at surge impulses</pre><br> / <b>Applications:</b> / <pre> / •12–48 VDC distribution / •110–400 V power supply / •Leakage of voltage peaks / •Surge protection in accordance with EN 61000-4-5 / </pre>
MANUFACTURER: Würth Elektronik eiSos GmbH; CREATED-BY: Christin Zierenner; COMPANY-URL: http://www.we-online.de; CREATED-DATE: May 2012; DATASHEET-URL: http://katalog.we-online.de/kataloge/eisos/media/pdf/820474211.pdf
footprint WE-VD_7MM-2.7
pins: 1, 2

## WE-VD_7MM,820474611
designator D?, comment <b>Characteristics:</b> / <pre>•Low clamping voltage / •After a surge impulse the varistor works immediately / in normal mode so there is no slip current / •Excellent absorption at surge impulses</pre><br> / <b>Applications:</b> / <pre> / •12–48 VDC distribution / •110–400 V power supply / •Leakage of voltage peaks / •Surge protection in accordance with EN 61000-4-5 / </pre>
MANUFACTURER: Würth Elektronik eiSos GmbH; CREATED-BY: Christin Zierenner; COMPANY-URL: http://www.we-online.de; CREATED-DATE: May 2012; DATASHEET-URL: http://katalog.we-online.de/kataloge/eisos/media/pdf/820474611.pdf
footprint WE-VD_7MM-3.0
pins: 1, 2

## WE-VD_7MM,820474811
designator D?, comment <b>Characteristics:</b> / <pre>•Low clamping voltage / •After a surge impulse the varistor works immediately / in normal mode so there is no slip current / •Excellent absorption at surge impulses</pre><br> / <b>Applications:</b> / <pre> / •12–48 VDC distribution / •110–400 V power supply / •Leakage of voltage peaks / •Surge protection in accordance with EN 61000-4-5 / </pre>
MANUFACTURER: Würth Elektronik eiSos GmbH; CREATED-BY: Christin Zierenner; COMPANY-URL: http://www.we-online.de; CREATED-DATE: May 2012; DATASHEET-URL: http://katalog.we-online.de/kataloge/eisos/index.php?language=en&pf=WE-VD
footprint WE-VD_7MM-3.1
pins: 1, 2

## WE-VD_7MM,820475111
designator D?, comment <b>Characteristics:</b> / <pre>•Low clamping voltage / •After a surge impulse the varistor works immediately / in normal mode so there is no slip current / •Excellent absorption at surge impulses</pre><br> / <b>Applications:</b> / <pre> / •12–48 VDC distribution / •110–400 V power supply / •Leakage of voltage peaks / •Surge protection in accordance with EN 61000-4-5 / </pre>
MANUFACTURER: Würth Elektronik eiSos GmbH; CREATED-BY: Christin Zierenner; COMPANY-URL: http://www.we-online.de; CREATED-DATE: May 2012; DATASHEET-URL: http://katalog.we-online.de/kataloge/eisos/index.php?language=en&pf=WE-VD
footprint WE-VD_7MM-3.3
pins: 1, 2

## WE-VD_7MM,820476001
designator D?, comment <b>Characteristics:</b> / <pre>•Low clamping voltage / •After a surge impulse the varistor works immediately / in normal mode so there is no slip current / •Excellent absorption at surge impulses</pre><br> / <b>Applications:</b> / <pre> / •12–48 VDC distribution / •110–400 V power supply / •Leakage of voltage peaks / •Surge protection in accordance with EN 61000-4-5 / </pre>
MANUFACTURER: Würth Elektronik eiSos GmbH; CREATED-BY: Christin Zierenner; COMPANY-URL: http://www.we-online.de; CREATED-DATE: May 2012; DATASHEET-URL: http://katalog.we-online.de/kataloge/eisos/index.php?language=en&pf=WE-VD
footprint WE-VD_7MM-DIA
pins: 1, 2

## WE-VD_7MM,820477501
designator D?, comment <b>Characteristics:</b> / <pre>•Low clamping voltage / •After a surge impulse the varistor works immediately / in normal mode so there is no slip current / •Excellent absorption at surge impulses</pre><br> / <b>Applications:</b> / <pre> / •12–48 VDC distribution / •110–400 V power supply / •Leakage of voltage peaks / •Surge protection in accordance with EN 61000-4-5 / </pre>
MANUFACTURER: Würth Elektronik eiSos GmbH; CREATED-BY: Christin Zierenner; COMPANY-URL: http://www.we-online.de; CREATED-DATE: May 2012; DATASHEET-URL: http://katalog.we-online.de/kataloge/eisos/index.php?language=en&pf=WE-VD
footprint WE-VD_7MM-DIA
pins: 1, 2